# EAGLE library part INSTRUMENTATION-HEADER-5-LANES (library pasives)
CONN HEADER, 1.27MM, 2X10WAY, SMT
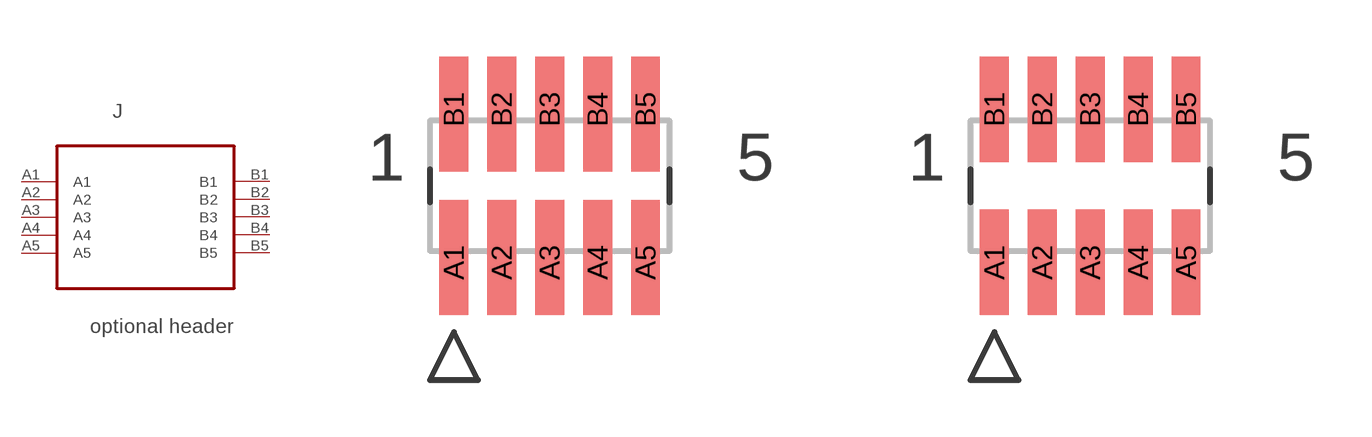
[diagram p0: symbol with the pads of 5LANE-1.27MM-OPTIONAL-INSTRUMENTATION; footprints 5LANE-1.27MM-OPTIONAL-INSTRUMENTATION, HEADER-1.27MM-2X5]

Designator prefix J

## INSTRUMENTATION-HEADER-5-LANESSHORTED  [5LANE-1.27MM-OPTIONAL-INSTRUMENTATION]
A1  A1  pas
A2  A2  pas
A3  A3  pas
A4  A4  pas
A5  A5  pas
B1  B1  pas
B2  B2  pas
B3  B3  pas
B4  B4  pas
B5  B5  pas

## INSTRUMENTATION-HEADER-5-LANESOPEN  [HEADER-1.27MM-2X5]
Pads as for 5LANE-1.27MM-OPTIONAL-INSTRUMENTATION

## Footprint 5LANE-1.27MM-OPTIONAL-INSTRUMENTATION (pad centres in mm)
smd 0.762 x 2.794: A1 -1.905,-2.032; A2 -0.635,-2.032; A3 0.635,-2.032; A4 1.905,-2.032; A5 3.175,-2.032; B1 -1.905,2.032; B2 -0.635,2.032; B3 0.635,2.032; B4 1.905,2.032; B5 3.175,2.032

## Footprint HEADER-1.27MM-2X5 (pad centres in mm)
smd 0.762 x 2.794: A1 -1.905,-2.032; A2 -0.635,-2.032; A3 0.635,-2.032; A4 1.905,-2.032; A5 3.175,-2.032; B1 -1.905,2.032; B2 -0.635,2.032; B3 0.635,2.032; B4 1.905,2.032; B5 3.175,2.032